# Altium footprint library CAPC_1210.PcbLib: 1 footprints
Each footprint in its own frame and in the unit in brackets; x right, y up, seen from the top. Pads: shape width x height; smd on the part's side, far side on the other; paste and mask are expansions set on the pad; w line width, h text height; cw(c..) or ccw(c..) is an arc to the next point about the centre after c.
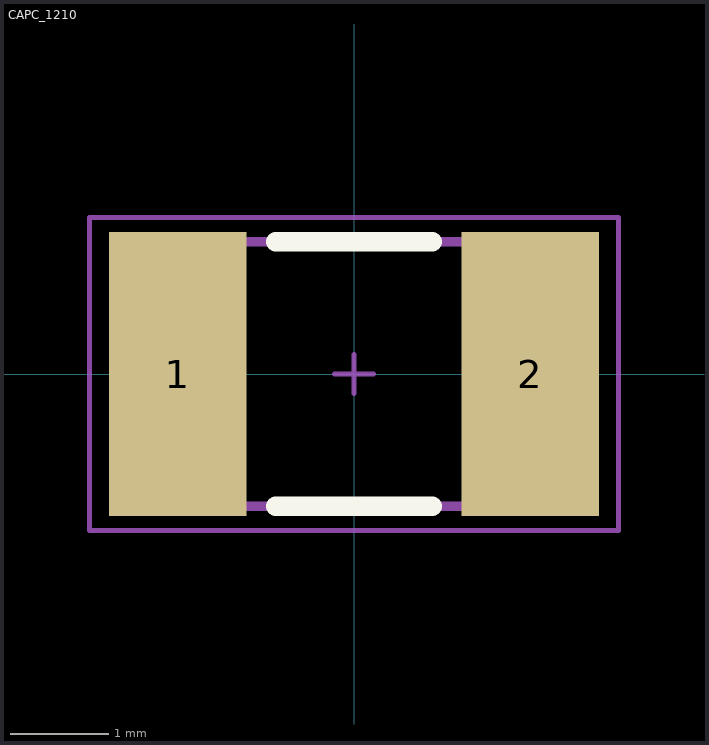
[diagram p0: the footprint, top view; thin cyan lines are the x and y axes]

## CAPC_1210 [mm] "CAPC_1210"
height 2
pads (2):
  rect 1.4x2.9 smd: 1(-1.8,0) 2(1.8,0)
Top Overlay:
  lines w0.2: -0.8,-1.35 0.8,-1.35 ; -0.8,1.35 0.8,1.35
Mechanical 13:
  lines w0.1: -1.75,-1.35 1.75,-1.35 1.75,1.35 -1.75,1.35 -1.75,-1.35
Mechanical 15:
  lines w0.05: -0.2,0 0.2,0 ; 0,-0.2 0,0.2 ; -2.7,-1.6 -2.7,1.6 2.7,1.6 2.7,-1.6 -2.7,-1.6
3D body: height 2, standoff 0, extent -1.75,-1.35 1.75,1.35